# Altium footprint library Hitano_100n_630V.PcbLib: 1 footprints
Each footprint in its own frame and in the unit in brackets; x right, y up, seen from the top. Pads: shape width x height; smd on the part's side, far side on the other; paste and mask are expansions set on the pad; w line width, h text height; cw(c..) or ccw(c..) is an arc to the next point about the centre after c.
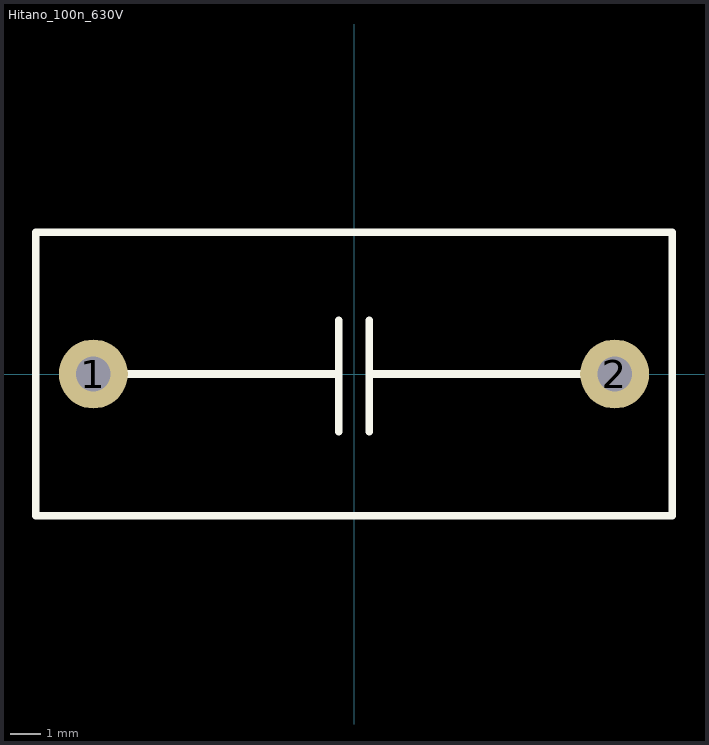
[diagram p0: the footprint, top view; thin cyan lines are the x and y axes]

## Hitano_100n_630V [mil]
pads (2):
  round 90 hole 45: 1(-340,0) 2(340,0)
Top Overlay:
  lines w10: -340,0 -20,0 ; -20,-75 -20,0 ; -20,70 -20,0 ; 20,-75 20,0 ; 20,70 20,0 ; 340,0 20,0 ; -415,-185 415,-185 415,185 -415,185 -415,-185
Bottom Overlay:
  lines w10: -415,-185 415,-185 415,185 -415,185 -415,-185
3D body "Hitano 100nF 630V 104J.STEP": height 645.28, standoff -220.87, extent -354.33,-187.05 354.33,187.01